# Altium footprint library PcbLib1.PcbLib: 3 footprints
Each footprint in its own frame and in the unit in brackets; x right, y up, seen from the top. Pads: shape width x height; smd on the part's side, far side on the other; paste and mask are expansions set on the pad; w line width, h text height; cw(c..) or ccw(c..) is an arc to the next point about the centre after c.
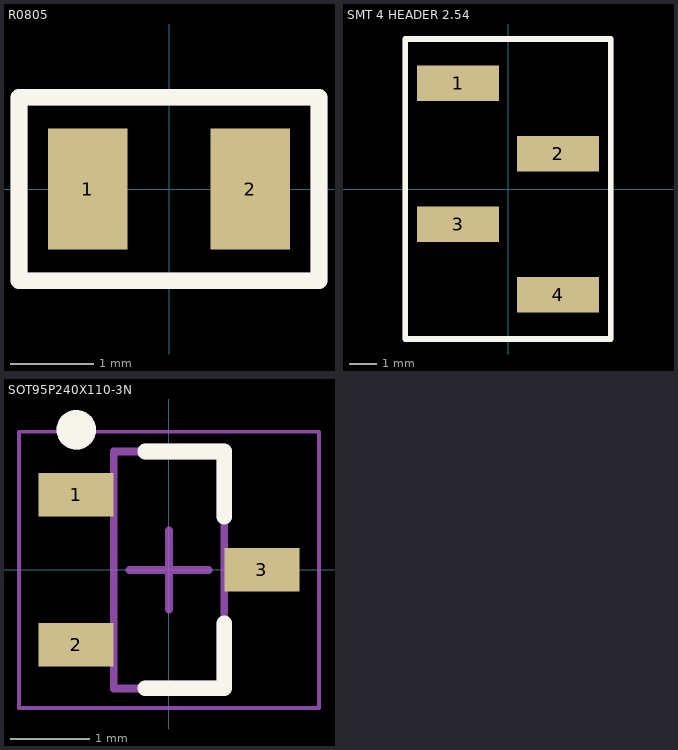
[diagram p0: the footprints below, top view; thin cyan lines are the x and y axes]

## R0805 [mm]
pads (2):
  rect 0.95x1.45 smd: 1(-0.975,0) 2(0.975,0)
Top Overlay:
  lines w0.2: -1.8,-1.1 -1.8,1.1 1.8,1.1 1.8,-1.1 -1.8,-1.1
Mechanical 29:
  lines w0.2: -1.8,-1.1 -1.8,1.1 1.8,1.1 1.8,-1.1 -1.8,-1.1
  text "'.Designator'" at -1.5,-0.567 h0.7
3D body "User Library-0805CRCW.STEP": height 0.46, standoff 0, extent -1,-0.625 1,0.625

## SMT 4 HEADER 2.54 [mm]
pads (4):
  rect 2.96x1.27 smd: 1(-1.8,3.81) 2(1.8,1.27) 3(-1.8,-1.27) 4(1.8,-3.81)
Top Overlay:
  lines w0.2: -3.7,-5.4 -3.7,5.4 3.7,5.4 3.7,-5.4 -3.7,-5.4
Mechanical 29:
  lines w0.2: -3.7,-5.4 -3.7,5.4 3.7,5.4 3.7,-5.4 -3.7,-5.4
  text "'.Designator'" at 0.3,3.333 h0.7
3D body "71071834.stp": height 9.34, standoff 0.01, extent -2.5,-5.08 2.5,5.08

## SOT95P240X110-3N [mm] "SOT23, 3-Leads, Body 2,90x2,40mm, Pitch 0,95mm, IPC Medium Density"
height 1.1
pads (3):
  rect 0.95x0.55 smd: 1(-1.175,0.95) 2(-1.175,-0.95) 3(1.175,0)
Top Overlay:
  circle w0.25: c-1.175,1.775 r0.125
  lines w0.2: -0.3,-1.5 0.7,-1.5 0.7,-0.675 ; -0.3,1.5 0.7,1.5 0.7,0.675
Mechanical 13:
  lines w0.1: -0.7,-1.5 -0.7,1.5 0.7,1.5 0.7,-1.5 -0.7,-1.5
Mechanical 15:
  lines w0.05: -1.9,-1.75 -1.9,1.75 1.9,1.75 1.9,-1.75 -1.9,-1.75
  lines w0.1: -0.5,0 0.5,0 ; 0,-0.5 0,0.5
Mechanical 29:
  circle w0.25: c-1.175,1.775 r0.125
  lines w0.2: -0.3,-1.5 0.7,-1.5 0.7,-0.675 ; -0.3,1.5 0.7,1.5 0.7,0.675
  text "'.Designator'" at -0.667,0.9 h0.7
3D body "SOT95P240X110-3N.step": height 1.1, standoff 0, extent -1.275,-1.5 1.275,1.5